# EAGLE library part BLUETOOTH_MODULE (library common_modules)
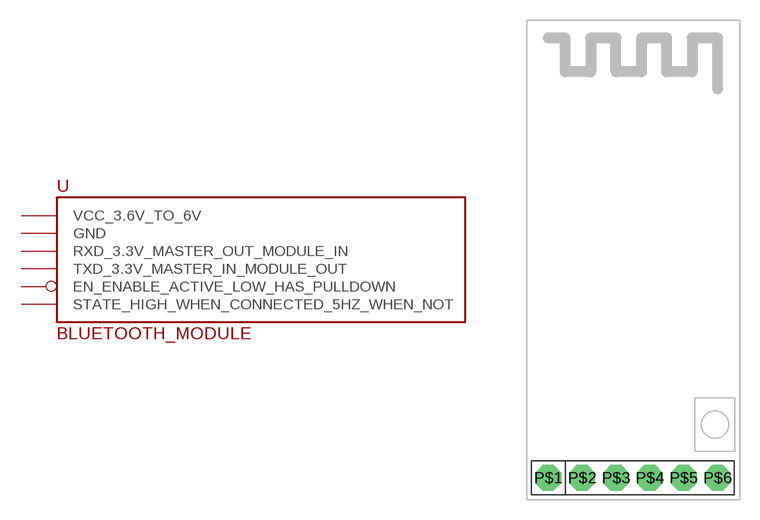
[diagram p1: symbol with the pads of BLUETOOTH_MODULE; footprint BLUETOOTH_MODULE]

Designator prefix -

## BLUETOOTH_MODULE (VALUE: Bluetooth Module)  [BLUETOOTH_MODULE]
P$1  STATE_HIGH_WHEN_CONNECTED_5HZ_WHEN_NOT  out
P$2  RXD_3.3V_MASTER_OUT_MODULE_IN  in
P$3  TXD_3.3V_MASTER_IN_MODULE_OUT  out
P$4  GND  sup
P$5  VCC_3.6V_TO_6V  sup
P$6  EN_ENABLE_ACTIVE_LOW_HAS_PULLDOWN  in

## Footprint BLUETOOTH_MODULE (pad centres in mm)
drill 1.2 pad 1.93 octagon: P$1 0,0; P$2 2.54,0; P$3 5.08,0; P$4 7.62,0; P$5 10.16,0; P$6 12.7,0